# EAGLE library part MCA1101-50-5 (library MCA1101-50-5)
Board Mount Current Sensors High Accuracy 50A Current Sensor, 5V, Fixed gain, 1.5MHz 3dB BW, OCP, Galvanic Isolation. UL/IEC/EN60950-1 and UL1577 certified. SOIC-16 Source: Datasheet <https://componentsearchengine.com/Datasheets/1/MCA1101-50-5.pdf>
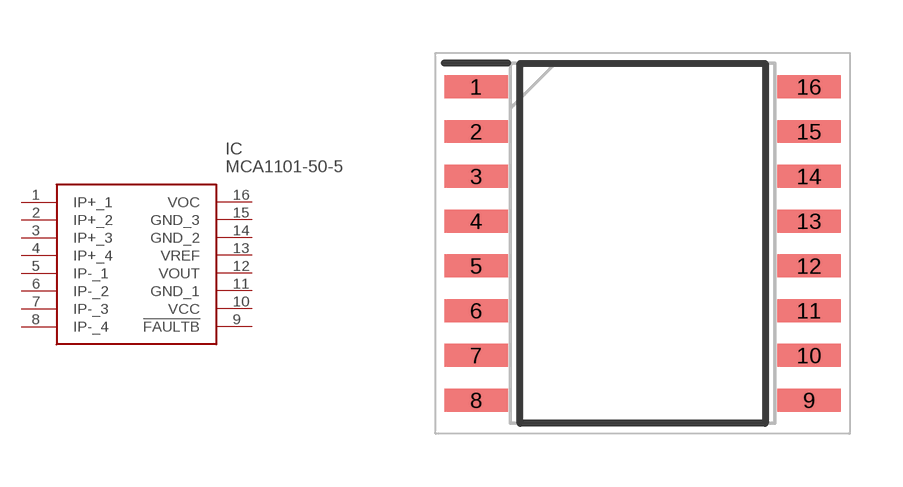
[diagram p0: symbol with the pads of SOIC127P1031X264-16N; footprint SOIC127P1031X264-16N]

Designator prefix IC

## MCA1101-50-5 (Description: Board Mount Current Sensors High Accuracy 50A Current Sensor, 5V, Fixed gain, 1.5MHz 3dB BW, OCP, Galvanic Isolation. UL/IEC/EN60950-1 and UL1577 certified. SOIC-16; Height: 2.64mm; Manufacturer_Name: ACEINNA; Manufacturer_Part_Number: MCA1101-50-5; Mouser_Part_Number: 438-MCA1101-50-5; Mouser_Price-Stock: https://www.mouser.com/Search/Refine.aspx?Keyword=438-MCA1101-50-5)  [SOIC127P1031X264-16N]
1  IP+_1
2  IP+_2
3  IP+_3
4  IP+_4
5  IP-_1
6  IP-_2
7  IP-_3
8  IP-_4
9  !FAULTB
10  VCC
11  GND_1
12  VOUT
13  VREF
14  GND_2
15  GND_3
16  VOC

## Footprint SOIC127P1031X264-16N (pad centres in mm)
16-pin SOIC
smd 1.8 x 0.65: 1 -4.725,4.445; 2 -4.725,3.175; 3 -4.725,1.905; 4 -4.725,0.635; 5 -4.725,-0.635; 6 -4.725,-1.905; 7 -4.725,-3.175; 8 -4.725,-4.445; 9 4.725,-4.445; 10 4.725,-3.175; 11 4.725,-1.905; 12 4.725,-0.635; 13 4.725,0.635; 14 4.725,1.905; 15 4.725,3.175; 16 4.725,4.445